# Altium footprint library SEG_pressure gauge_don  V3.0.PcbLib: 25 footprints (part 2 of 2)
Each footprint in its own frame and in the unit in brackets; x right, y up, seen from the top. Pads: shape width x height; smd on the part's side, far side on the other; paste and mask are expansions set on the pad; w line width, h text height; cw(c..) or ccw(c..) is an arc to the next point about the centre after c.
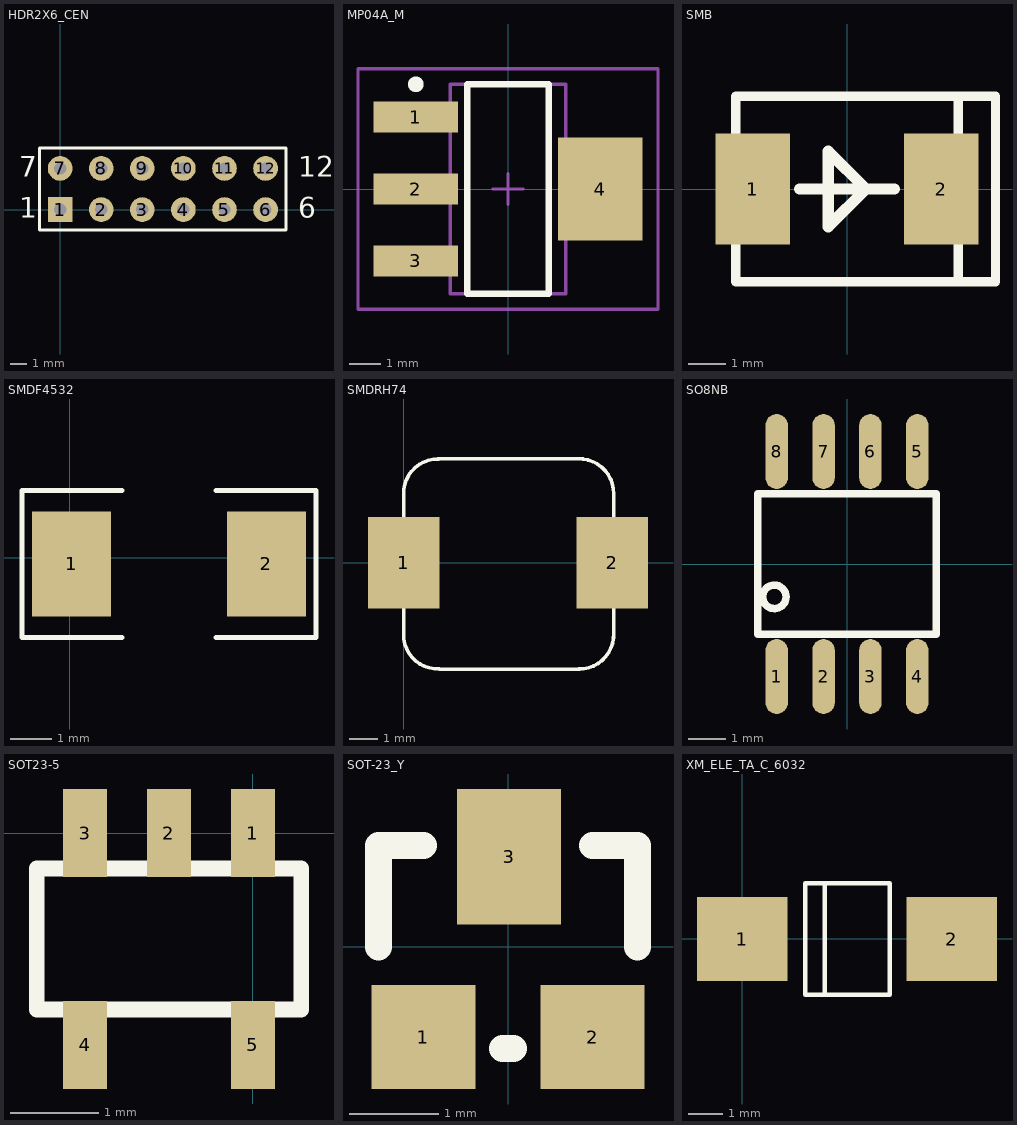
[diagram p1: the footprints below, top view; thin cyan lines are the x and y axes]

## HDR2X6_CEN [mil] "Connector; Header; 6x2 Position"
pads (12):
  rect 60x60 hole 30: 1(0,0)
  round 60 hole 30: 2(100,0) 3(200,0) 4(300,0) 5(400,0) 6(500,0) 7(0,100) 8(100,100) 9(200,100) 10(300,100) 11(400,100) 12(500,100)
Top Overlay:
  lines w7.87: -50,-50 550,-50 550,150 -50,150 -50,-50
  text "12" at 580,80 h50
  text "6" at 580,-20 h50
  text "1" at -100,-20 h50
  text "7" at -100,80 h50

## MP04A_M [mm] "SOT223, 4-Leads, Body 6.5x3.5mm, Pitch 2.3mm, Lead Span 7mm, IPC Low Density"
height 1.8
pads (4):
  rect 2.7x1 smd: 1(-2.95,2.3) 2(-2.95,0) 3(-2.95,-2.3)
  rect 2.7x3.3 smd: 4(2.95,0)
Top Overlay:
  circle w0.25: c-2.95,3.35 r0.125
  lines w0.2: -1.3,-3.35 1.3,-3.35 1.3,3.35 -1.3,3.35 -1.3,-3.35
Mechanical 13:
  lines w0.1: -1.85,-3.35 1.85,-3.35 1.85,3.35 -1.85,3.35 -1.85,-3.35
Mechanical 15:
  lines w0.1: -0.5,0 0.5,0 ; 0,-0.5 0,0.5 ; -4.8,-3.85 4.8,-3.85 4.8,3.85 -4.8,3.85 -4.8,-3.85
3D body: height 1.8, standoff 0, extent -1.85,-3.35 1.85,3.35

## SMB [mm]
height 2
pads (2):
  rect 2x3 smd: 1(-2.54,0) 2(2.54,0)
Top Overlay:
  lines w0.254: -3,-1.5 -3,-2.5 3,-2.5 ; -3,1.5 -3,2.5 3,2.5 ; 3,-1.5 3,-2.5 ; 3,1.5 3,2.5 ; 3,-2.5 4,-2.5 4,2.5 3,2.5
  lines w0.305: -1.27,0 1.27,0 ; -0.508,-1.016 -0.508,1.016 0.508,0 -0.508,-1.016
3D body: height 2.2, standoff -0.05, extent -2.65,-1.85 2.65,1.85

## SMDF4532 [mil]
height 66.93
pads (2):
  rect 75x100 smd: 1(1.45,-5.71) 2(187.08,-5.71)
Top Overlay:
  lines w5: 49.36,-75.72 -45.64,-75.72 -45.64,64.28 49.36,64.28 ; 139.2,-75.79 234.2,-75.79 234.2,64.21 139.2,64.21

## SMDRH74 [mm]
height 1.6
pads (2):
  rect 2.5x3.2 smd: 1(0,0) 2(7.3,0)
Top Overlay:
  lines w0.127: -0.003,-1.604 -0.003,-2.502 ccw(c1.194,-2.526) 1.248,-3.723 ; -0.002,1.614 -0.002,2.374 cw(c1.195,2.428) 1.219,3.626 ; 1.196,3.63 6.095,3.63 cw(c6.149,2.433) 7.347,2.409 7.347,1.626 ; 1.248,-3.728 6.156,-3.728 ; 6.125,-3.724 ccw(c6.149,-2.527) 7.346,-2.473 7.346,-1.601

## SO8NB [mil]
height 62.99
pads (8):
  oval 24x80 smd: 1(-75,-120) 2(-25,-120) 3(25,-120) 4(75,-120) 5(75,120) 6(25,120) 7(-25,120) 8(-75,120)
Top Overlay:
  circle w8: c-77.5,-35 r12.5
  lines w8: -95,-75 -95,75 95,75 95,-75 -95,-75
3D body: height 61.02, standoff -1.97, extent -96.91,-117.91 96,117.91

## SOT23-5 [mm]
height 14
pads (5):
  rect 0.5x1 smd: 1(0,0) 2(-0.95,0) 3(-1.9,0) 4(-1.9,-2.4) 5(0,-2.4)
Top Overlay:
  lines w0.178: -2.45,-2 0.55,-2 0.55,-0.4 -2.45,-0.4 -2.45,-2
3D body: height 1.09, standoff -0.01, extent -2.399,-2.599 0.5,0.201

## SOT-23_Y [mil] "IMP809T（已加焊）"
pads (3):
  rect 46x46 smd: 1(-37.5,-40) 2(37.5,-40)
  rect 46x60 smd: 3(0.5,40)
Top Overlay:
  lines w12: -57.5,0 -57.5,45 -37.5,45 ; -2.5,-45 2.5,-45 ; 37.5,45 57.5,45 57.5,0
3D body: height 39.37, standoff -0.07, extent -60.32,-62.99 60.72,70.01

## XM_ELE_TA_C_6032 [mm]
height 1.6
pads (2):
  rect 2.6x2.4 smd: 1(0.006,-0.013) 2(6.006,-0.013)
Top Overlay:
  lines w0.127: 2.367,-1.613 2.367,1.588 ; 1.806,-1.613 1.806,1.588 4.231,1.588 4.231,-1.613 1.806,-1.613